# EAGLE library part IRF7905 (library svBGC)
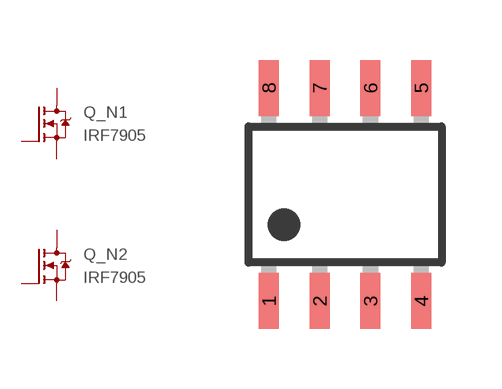
[diagram p7: symbol with the pads of SOIC-8; footprint SOIC-8]

Designator prefix Q; gates _N1=N-CHANNEL _N2=N-CHANNEL

## IRF7905PBF  [SOIC-8]
1  _N2:N-S  pas
2  _N2:N-G  pas
3  _N1:N-S  pas
4  _N1:N-G  pas
5  _N1:N-D  pas
6  _N1:N-D  pas
7  _N2:N-D  pas
8  _N2:N-D  pas

## Footprint SOIC-8 (pad centres in mm)
SOIC-8 150 mil Package
smd 0.5 x 1.4: 1 -1.905,-2.667; 2 -0.635,-2.667; 3 0.635,-2.667; 4 1.905,-2.667; 5 1.905,2.667; 6 0.635,2.667; 7 -0.635,2.667; 8 -1.905,2.667